# EAGLE library part MCP2515 (library canusb)
MCP2515 - Stand-Alone CAN Controller with SPI Interface
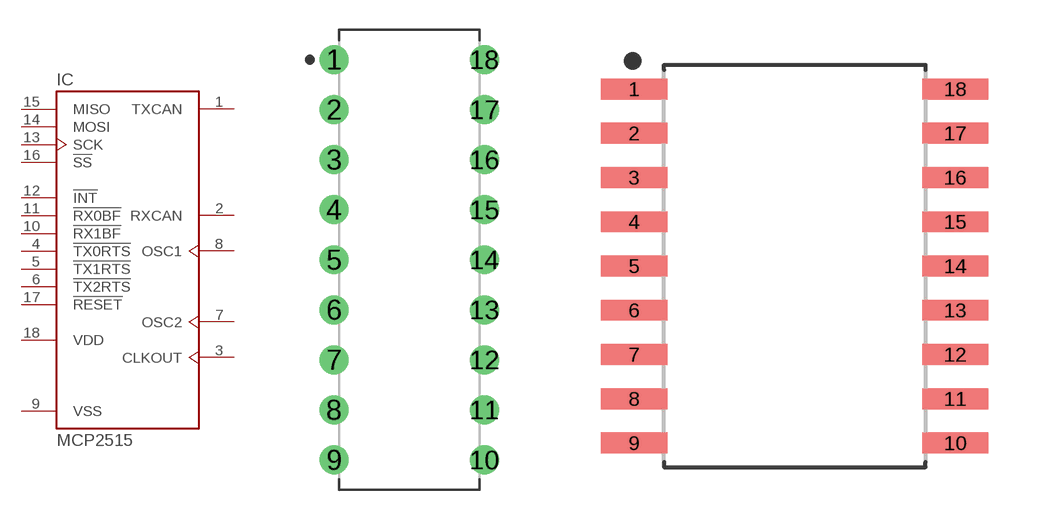
[diagram p5: symbol with the pads of DIP762W55P254L2336H533Q18B; footprints DIP762W55P254L2336H533Q18B, SOIC127P1030X265-18N]

Designator prefix IC

## MCP2515-I/P  [DIP762W55P254L2336H533Q18B]
1  TXCAN
2  RXCAN
3  CLKOUT  out
4  !TX0RTS  in
5  !TX1RTS  in
6  !TX2RTS  in
7  OSC2  out
8  OSC1  in
9  VSS  pwr
10  !RX1BF  out
11  !RX0BF  out
12  !INT  out
13  SCK  in
14  MOSI  in
15  MISO  out
16  !SS  in
17  !RESET  in
18  VDD  pwr

## MCP2515-I/SO  [SOIC127P1030X265-18N]
Pads as for DIP762W55P254L2336H533Q18B

## Footprint DIP762W55P254L2336H533Q18B (pad centres in mm)
18-DIP, 2.54 mm (0.10 in) pitch, 7.62 mm (0.30 in) span, 23.36 X 6.60 X 5.33 mm body 18-pin DIP package with 2.54 mm (0.10 in) pitch, 7.62 mm (0.30 in) span with body size 23.36 X 6.60 X 5.33 mm
drill 0.862 pad 1.462: 1 -3.81,10.16; 2 -3.81,7.62; 3 -3.81,5.08; 4 -3.81,2.54; 5 -3.81,0; 6 -3.81,-2.54; 7 -3.81,-5.08; 8 -3.81,-7.62; 9 -3.81,-10.16; 10 3.81,-10.16; 11 3.81,-7.62; 12 3.81,-5.08; 13 3.81,-2.54; 14 3.81,0; 15 3.81,2.54; 16 3.81,5.08; 17 3.81,7.62; 18 3.81,10.16

## Footprint SOIC127P1030X265-18N (pad centres in mm)
18-SOIC, 1.27 mm pitch, 10.30 mm span, 11.55 X 7.50 X 2.65 mm body 18-pin SOIC package with 1.27 mm pitch, 10.30 mm span with body size 11.55 X 7.50 X 2.65 mm
smd 1.901 x 0.599: 1 -4.605,5.08; 2 -4.605,3.81; 3 -4.605,2.54; 4 -4.605,1.27; 5 -4.605,0; 6 -4.605,-1.27; 7 -4.605,-2.54; 8 -4.605,-3.81; 9 -4.605,-5.08; 10 4.605,-5.08; 11 4.605,-3.81; 12 4.605,-2.54; 13 4.605,-1.27; 14 4.605,0; 15 4.605,1.27; 16 4.605,2.54; 17 4.605,3.81; 18 4.605,5.08